# Altium footprint library ReceiverLoRa.PcbLib: 17 footprints (part 2 of 2)
Each footprint in its own frame and in the unit in brackets; x right, y up, seen from the top. Pads: shape width x height; smd on the part's side, far side on the other; paste and mask are expansions set on the pad; w line width, h text height; cw(c..) or ccw(c..) is an arc to the next point about the centre after c.
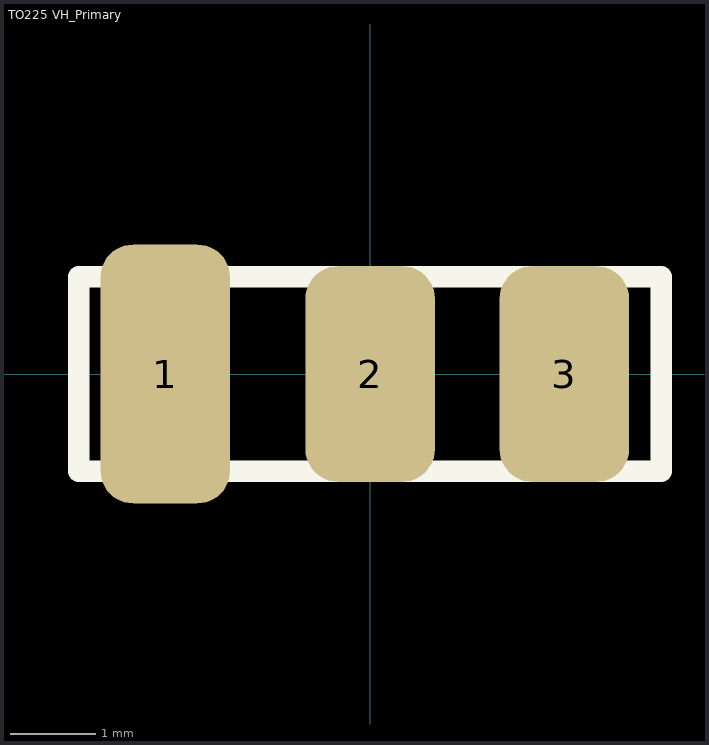
[diagram p1: the footprint, top view; thin cyan lines are the x and y axes]

## TO225 VH_Primary [mil]
pads (3):
  rrect50% 60x120 smd: 1(-95,0)
  rrect50% 60x100 smd: 2(0,0) 3(90,0)
Top Overlay:
  lines w10: -135,-45 -135,45 135,45 135,-45 -135,-45